# EAGLE library part MICROSD_TINY (library GPS_Pro_Mini_temp)
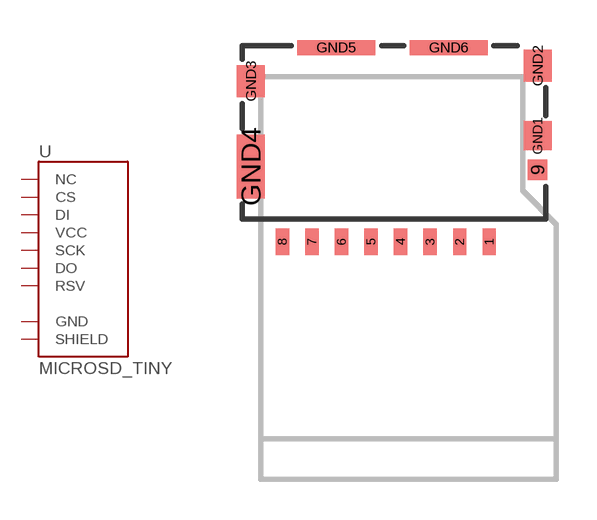
[diagram p0: symbol with the pads of MICROSD_TINY; footprint MICROSD_TINY]

Designator prefix U

## MICROSD_TINY (PROD_ID: CONN-13500)  [MICROSD_TINY]
1  RSV
2  CS
3  DI
4  VCC
5  SCK
6  GND
7  DO
8  RSV
9  NC
GND1  SHIELD
GND2  SHIELD
GND3  SHIELD
GND4  SHIELD
GND5  SHIELD
GND6  SHIELD

## Footprint MICROSD_TINY (pad centres in mm)
smd 0.5 x 1: 1 9.2,-0.85; 2 8.1,-0.85; 3 7,-0.85; 4 5.9,-0.85; 5 4.8,-0.85; 6 3.7,-0.85; 7 2.6,-0.85; 8 1.5,-0.85
smd 0.72 x 0.78: 9 11,1.83
smd 1.05 x 1.08: GND1 11,3.1
smd 1.05 x 1.2: GND2 11,5.71; GND3 0.325,5.14
smd 1.05 x 2.39: GND4 0.325,1.955
smd 2.91 x 0.55: GND5 3.505,6.385; GND6 7.695,6.385